# Altium footprint library TYPE-C-31-M-04.PcbLib: 1 footprints
Each footprint in its own frame and in the unit in brackets; x right, y up, seen from the top. Pads: shape width x height; smd on the part's side, far side on the other; paste and mask are expansions set on the pad; w line width, h text height; cw(c..) or ccw(c..) is an arc to the next point about the centre after c.
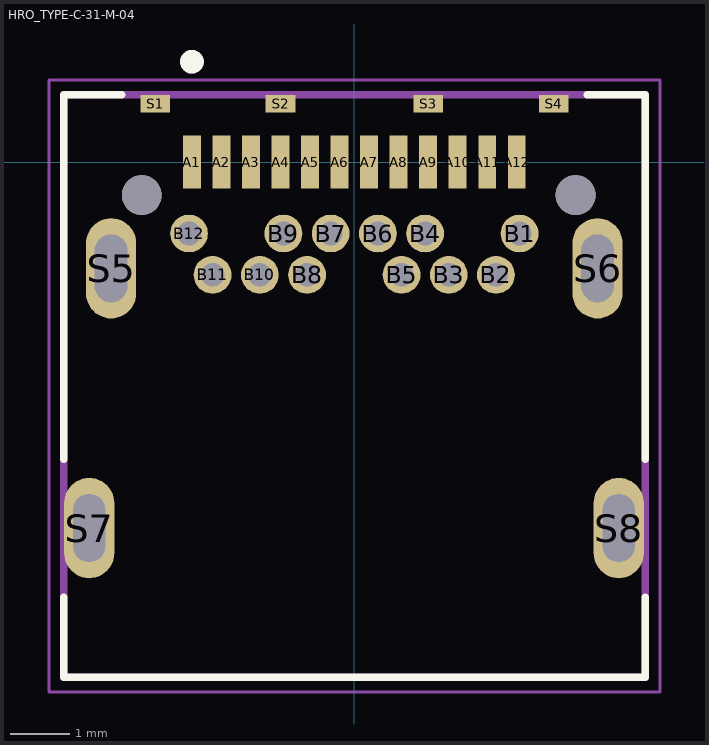
[diagram p0: the footprint, top view; thin cyan lines are the x and y axes]

## HRO_TYPE-C-31-M-04 [mm]
pads (34):
  rect 0.3x0.9 smd: A1(-2.75,0) A2(-2.25,0) A3(-1.75,0) A4(-1.25,0) A5(-0.75,0) A6(-0.25,0) A7(0.25,0) A8(0.75,0) A9(1.25,0) A10(1.75,0) A11(2.25,0) A12(2.75,0)
  round 0.64 hole 0.4: B1(2.8,-1.21) B2(2.4,-1.91) B3(1.6,-1.91) B4(1.2,-1.21) B5(0.8,-1.91) B6(0.4,-1.21) B7(-0.4,-1.21) B8(-0.8,-1.91) B9(-1.2,-1.21) B10(-1.6,-1.91) B11(-2.4,-1.91) B12(-2.8,-1.21)
  rect 0.5x0.3 smd: S1(-3.37,0.99) S2(-1.25,0.99) S3(1.25,0.99) S4(3.38,0.99)
  oval 0.85x1.7 hole 0.55 slot 1.15 at 90 deg: S5(-4.12,-1.8) S6(4.12,-1.8) S7(-4.49,-6.2) S8(4.48,-6.2)
  round 0.675 hole 0.675 unplated: ""(-3.6,-0.56) ""(3.75,-0.56)
Top Overlay:
  circle w0.2: c-2.75,1.7 r0.1
  lines w0.127: -4.925,-7.37 -4.925,-8.73 4.925,-8.73 4.925,-7.37 ; -4.925,-5.03 -4.925,1.14 -3.94,1.14 ; 3.95,1.14 4.925,1.14 4.925,-5.03
Mechanical 13:
  circle w0.2: c-2.75,1.7 r0.1
  lines w0.127: -4.925,-8.73 -4.925,1.14 4.925,1.14 4.925,-8.73 -4.925,-8.73
Mechanical 15:
  lines w0.05: -5.175,-8.98 5.175,-8.98 5.175,1.39 -5.175,1.39 -5.175,-8.98
3D body "step_temp.STEP": height 3.32, standoff -1.14, extent -4.925,-8.17 4.925,1.7